# Altium schematic symbol library MCP3008-I_SL.SchLib: 1 symbol
Pins are listed as number, name and electrical type; pins without a type are passive.

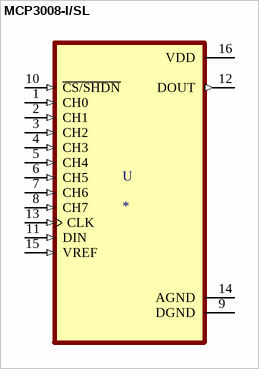
[diagram p0: symbol MCP3008-I/SL]

## MCP3008-I/SL
designator U
10 Bit Analog to Digital Converter 4, 8 Input 1 SAR 16-SOIC; MP: MCP3008-I/SL; MF: Microchip; Availability: Unavailable; SnapEDA_Link: https://www.snapeda.com/parts/MCP3008-I/SL/Microchip/view-part/43391/?ref=snap; Price: None; Value: *; Package: SOIC-16 Microchip
footprint SOIC127P600X175-16N
pins: 1 CH0 (in), 2 CH1 (in), 3 CH2 (in), 4 CH3 (in), 5 CH4 (in), 6 CH5 (in), 7 CH6 (in), 8 CH7 (in), 9 DGND (power), 10 ~{CS/SHDN} (in), 11 DIN (in), 12 DOUT (out), 13 CLK (in), 14 AGND (power), 15 VREF (in), 16 VDD (power)